# Altium schematic symbol library Cap_Murata_GRM21BR61C226ME44L_22uf.SchLib: 1 symbol
Pins are listed as number, name and electrical type; pins without a type are passive.

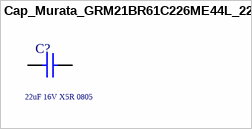
[diagram p0: symbol Cap_Murata_GRM21BR61C226ME44L_22uf]

## Cap_Murata_GRM21BR61C226ME44L_22uf
designator C?  Capacitance: 22uF 16V X5R 0805  (hidden comment: Cap_Murata_GRM21BR61C226ME44L_22uf)
CAP CER 22uF 16V X5R 0805; Supplier 1: Mouser; Supplier Part Number 1: 81-GRM21BR61C226ME4L
pins: 1, 2